# Altium footprint library Interface - RS485.PcbLib: 6 footprints
Each footprint in its own frame and in the unit in brackets; x right, y up, seen from the top. Pads: shape width x height; smd on the part's side, far side on the other; paste and mask are expansions set on the pad; w line width, h text height; cw(c..) or ccw(c..) is an arc to the next point about the centre after c.
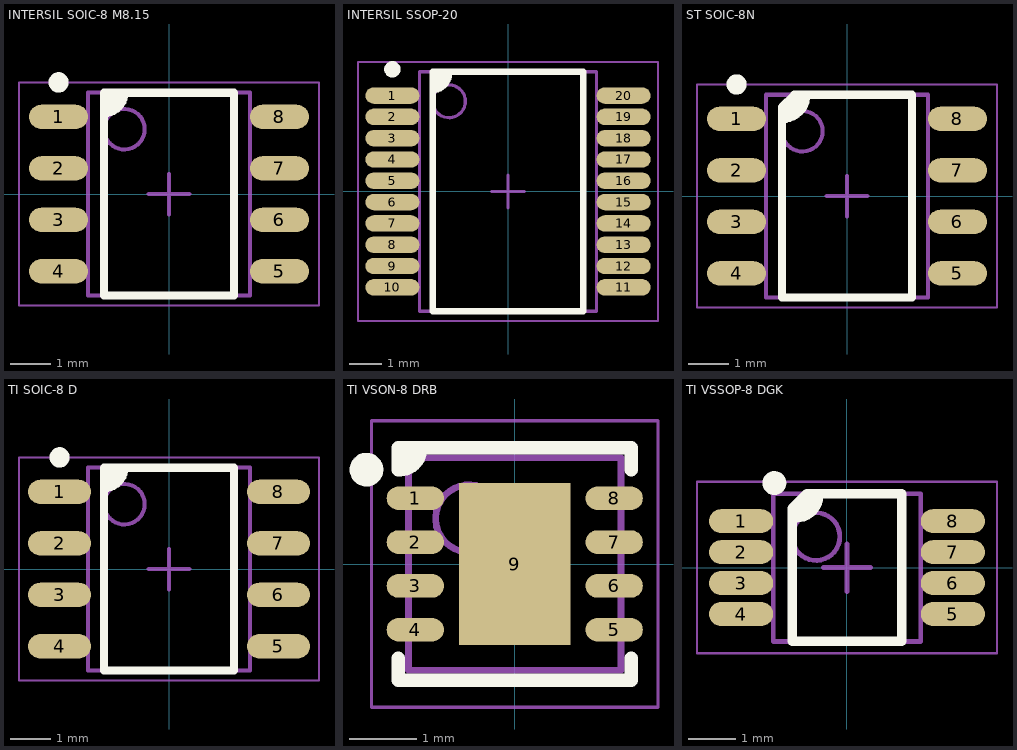
[diagram p0: the footprints below, top view; thin cyan lines are the x and y axes]

## INTERSIL SOIC-8 M8.15 [mm] "SOIC, 8-Leads, Body 4.90x3.90mm, Pitch 1.27mm, IPC Medium Density"
height 1.75
pads (8):
  oval 1.45x0.6 smd: 1(-2.725,1.905) 2(-2.725,0.635) 3(-2.725,-0.635) 4(-2.725,-1.905) 5(2.725,-1.905) 6(2.725,-0.635) 7(2.725,0.635) 8(2.725,1.905)
Top Overlay:
  circle w0.25: c-2.725,2.755 r0.125
  region: -1.6,2.5 -1.1,2.5 -1.1,2.3 -1.4,2 -1.6,2
  lines w0.2: -1.6,2 ccw(c-1.6,2.5) -1.1,2.5 ; -1.6,-2.5 -1.6,2.5 1.6,2.5 1.6,-2.5 -1.6,-2.5
Mechanical 13:
  circle w0.1: c-1.1,1.6 r0.5
  lines w0.1: -2,-2.5 -2,2.5 2,2.5 2,-2.5 -2,-2.5
Mechanical 15:
  lines w0.05: -3.7,-2.75 -3.7,2.75 3.7,2.75 3.7,-2.75 -3.7,-2.75
  lines w0.1: -0.5,0 0.5,0 ; 0,-0.5 0,0.5
3D body "SO-8.STEP": height 1.5, standoff 0, extent -3.014,-2.45 3.014,2.45

## INTERSIL SSOP-20 [mm] "SSOP, 20-Leads, Body 7.20x5.29mm, Pitch 0.65mm, IPC Medium Density"
height 1.99
pads (20):
  oval 1.65x0.5 smd: 1(-3.525,2.925) 2(-3.525,2.275) 3(-3.525,1.625) 4(-3.525,0.975) 5(-3.525,0.325) 6(-3.525,-0.325) 7(-3.525,-0.975) 8(-3.525,-1.625) 9(-3.525,-2.275) 10(-3.525,-2.925) 11(3.525,-2.925) 12(3.525,-2.275) 13(3.525,-1.625) 14(3.525,-0.975) 15(3.525,-0.325) 16(3.525,0.325) 17(3.525,0.975) 18(3.525,1.625) 19(3.525,2.275) 20(3.525,2.925)
Top Overlay:
  circle w0.25: c-3.525,3.725 r0.125
  region: -1.8,3.65 -2.3,3.65 -2.3,3.1 -2.1,3.1 -1.8,3.4
  lines w0.2: -2.3,3.1 ccw(c-2.3,3.6) -1.8,3.6 ; -2.3,-3.65 2.3,-3.65 2.3,3.65 -2.3,3.65 -2.3,-3.65
Mechanical 13:
  circle w0.1: c-1.8,2.75 r0.5
  lines w0.1: -2.7,-3.65 2.7,-3.65 2.7,3.65 -2.7,3.65 -2.7,-3.65
Mechanical 15:
  lines w0.05: -4.575,-3.95 4.575,-3.95 4.575,3.95 -4.575,3.95 -4.575,-3.95
  lines w0.1: -0.5,0 0.5,0 ; 0,-0.5 0,0.5
3D body "SSOP-20.STEP": height 1.97, standoff 0, extent -3.91,-3.6 3.911,3.6

## ST SOIC-8N [mm] "SOIC, 8-Leads, Body 4.90x3.90mm, Pitch 1.27mm, IPC Medium Density"
height 1.75
pads (8):
  oval 1.45x0.6 smd: 1(-2.725,1.905) 2(-2.725,0.635) 3(-2.725,-0.635) 4(-2.725,-1.905) 5(2.725,-1.905) 6(2.725,-0.635) 7(2.725,0.635) 8(2.725,1.905)
Top Overlay:
  circle w0.25: c-2.725,2.755 r0.125
  region: -1.6,1.9 -1.481,1.9 -1.26,1.991 -1.091,2.16 -1,2.381 -1,2.5 -1.3,2.5 -1.6,2.2
  lines w0.2: -1.6,1.9 ccw(c-1.6,2.5) -1,2.5 ; -1.6,-2.5 -1.6,2.2 -1.3,2.5 1.6,2.5 1.6,-2.5 -1.6,-2.5
Mechanical 13:
  circle w0.1: c-1.1,1.6 r0.5
  lines w0.1: -2,-2.5 2,-2.5 2,2.5 -2,2.5 -2,-2.5
Mechanical 15:
  lines w0.05: -3.7,-2.75 3.7,-2.75 3.7,2.75 -3.7,2.75 -3.7,-2.75
  lines w0.1: -0.5,0 0.5,0 ; 0,-0.5 0,0.5
3D body "SO-8.STEP": height 1.5, standoff 0, extent -3.014,-2.45 3.014,2.45

## TI SOIC-8 D [mm] "SOP, 8-Leads, Body 4.90x3.90mm, Pitch 1.27mm, IPC Medium Density"
height 1.75
pads (8):
  oval 1.55x0.6 smd: 1(-2.7,1.905) 2(-2.7,0.635) 3(-2.7,-0.635) 4(-2.7,-1.905) 5(2.7,-1.905) 6(2.7,-0.635) 7(2.7,0.635) 8(2.7,1.905)
Top Overlay:
  circle w0.25: c-2.7,2.755 r0.125
  region: -1.6,2.5 -1.6,2 -1.4,2 -1.1,2.3 -1.1,2.5
  lines w0.2: -1.6,2 ccw(c-1.6,2.5) -1.1,2.5 ; -1.6,-2.5 -1.6,2.5 1.6,2.5 1.6,-2.5 -1.6,-2.5
Mechanical 13:
  circle w0.1: c-1.1,1.6 r0.5
  lines w0.1: -2,-2.5 -2,2.5 2,2.5 2,-2.5 -2,-2.5
Mechanical 15:
  lines w0.05: -3.7,-2.75 -3.7,2.75 3.7,2.75 3.7,-2.75 -3.7,-2.75
  lines w0.1: -0.5,0 0.5,0 ; 0,-0.5 0,0.5
3D body "SO-8.STEP": height 1.5, standoff 0, extent -3.014,-2.45 3.014,2.45

## TI VSON-8 DRB [mm] "SON, 8-Leads, Body 3.00x3.00mm, Pitch 0.65mm, Thermal Pad 1.65x2.40mm, IPC Medium Density"
height 1
pads (9):
  oval 0.85x0.35 smd: 1(-1.475,0.975) 2(-1.475,0.325) 3(-1.475,-0.325) 4(-1.475,-0.975) 5(1.475,-0.975) 6(1.475,-0.325) 7(1.475,0.325) 8(1.475,0.975)
  rect 1.65x2.4 smd: 9(0,0)
Top Overlay:
  circle w0.25: c-2.2,1.4 r0.125
  region: -1.725,1.725 -1.725,1.4 -1.6,1.4 -1.4,1.6 -1.4,1.725
  lines w0.2: -1.725,-1.4 -1.725,-1.725 1.725,-1.725 1.725,-1.4 ; -1.4,1.7 cw(c-1.7,1.7) -1.7,1.4 -1.725,1.4 -1.725,1.725 1.725,1.725 1.725,1.4
Mechanical 13:
  circle w0.1: c-0.675,0.675 r0.5
  lines w0.1: -1.575,-1.575 -1.575,1.575 1.575,1.575 1.575,-1.575 -1.575,-1.575
Mechanical 15:
  lines w0.05: -2.125,-2.125 -2.125,2.125 2.125,2.125 2.125,-2.125 -2.125,-2.125
  lines w0.1: -0.5,0 0.5,0 ; 0,-0.5 0,0.5
3D body: height 1, standoff 0, extent -1.575,-1.575 1.575,1.575

## TI VSSOP-8 DGK [mm] "TSOP, 8-Leads, Body 3.00x3.00mm, Pitch 0.65mm, IPC Medium Density"
height 1.1
pads (8):
  oval 1.35x0.5 smd: 1(-2.225,0.975) 2(-2.225,0.325) 3(-2.225,-0.325) 4(-2.225,-0.975) 5(2.225,-0.975) 6(2.225,-0.325) 7(2.225,0.325) 8(2.225,0.975)
Top Overlay:
  circle w0.25: c-1.525,1.775 r0.125
  region: -1,1.4 -0.6,1.5 -0.6,1.35 -0.9,1.05 -1.1,1.05
  lines w0.2: -1.1,1.05 -1.05,1.05 ccw(c-1.05,1.5) -0.6,1.5 ; -1.15,-1.55 1.15,-1.55 1.15,1.55 -0.85,1.55 -1.15,1.25 -1.15,-1.55
Mechanical 13:
  circle w0.1: c-0.65,0.65 r0.5
  lines w0.1: -1.55,-1.55 -1.55,1.55 1.55,1.55 1.55,-1.55 -1.55,-1.55
Mechanical 15:
  lines w0.05: -3.15,-1.8 -3.15,1.8 3.15,1.8 3.15,-1.8 -3.15,-1.8
  lines w0.1: -0.5,0 0.5,0 ; 0,-0.5 0,0.5
3D body "TI VSSOP-8 DGK.STEP": height 1.1, standoff 0, extent -2.45,-1.5 2.45,1.5